# EAGLE library part IR2104 (library robione)
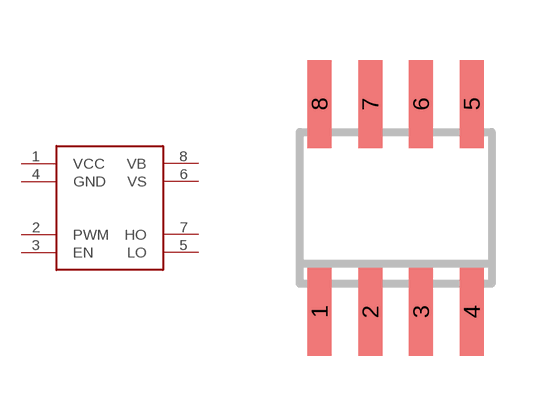
[diagram p3: symbol with the pads of SO08; footprint SO08]

Designator prefix -

## IR2104  [SO08]
1  VCC  pas
2  PWM  in
3  EN  in
4  GND  pas
5  LO  out
6  VS  pas
7  HO  out
8  VB  pas

## Footprint SO08 (pad centres in mm)
Small Outline Package 8 NS Package M08A
smd 0.6 x 2.2: 1 -1.905,-2.6; 2 -0.635,-2.6; 3 0.635,-2.6; 4 1.905,-2.6; 5 1.905,2.6; 6 0.635,2.6; 7 -0.635,2.6; 8 -1.905,2.6